# Altium footprint library KESE-DO-214AC_V.PcbLib: 1 footprints
Each footprint in its own frame and in the unit in brackets; x right, y up, seen from the top. Pads: shape width x height; smd on the part's side, far side on the other; paste and mask are expansions set on the pad; w line width, h text height; cw(c..) or ccw(c..) is an arc to the next point about the centre after c.
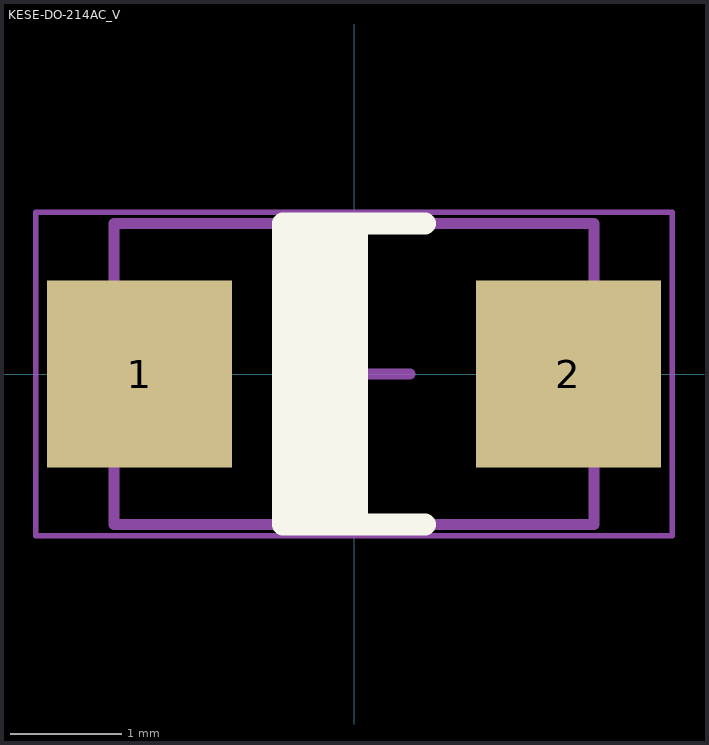
[diagram p0: the footprint, top view; thin cyan lines are the x and y axes]

## KESE-DO-214AC_V [mm] "SMD, 2-Leads, Body 4.2925x2.6925mm, Height 2.438mm"
height 2.438
pads (2):
  rect 1.655x1.67 smd: 1(-1.917,0) 2(1.917,0)
Top Overlay:
  rectangle: -0.635,-1.346 0.127,1.346
  lines w0.2: 0.635,-1.346 -0.635,-1.346 -0.635,1.346 0.635,1.346
Mechanical 13:
  lines w0.1: -2.146,-1.346 2.146,-1.346 2.146,1.346 -2.146,1.346 -2.146,-1.346
Mechanical 15:
  lines w0.05: -2.845,-1.446 -2.845,1.446 2.845,1.446 2.845,-1.446 -2.845,-1.446
  lines w0.1: -0.5,0 0.5,0 ; 0,-0.5 0,0.5
3D body: height 2.44, standoff 0.05, extent -2.146,-1.346 2.146,1.346